# Altium footprint library DSO221SHF.PcbLib: 1 footprints
Each footprint in its own frame and in the unit in brackets; x right, y up, seen from the top. Pads: shape width x height; smd on the part's side, far side on the other; paste and mask are expansions set on the pad; w line width, h text height; cw(c..) or ccw(c..) is an arc to the next point about the centre after c.
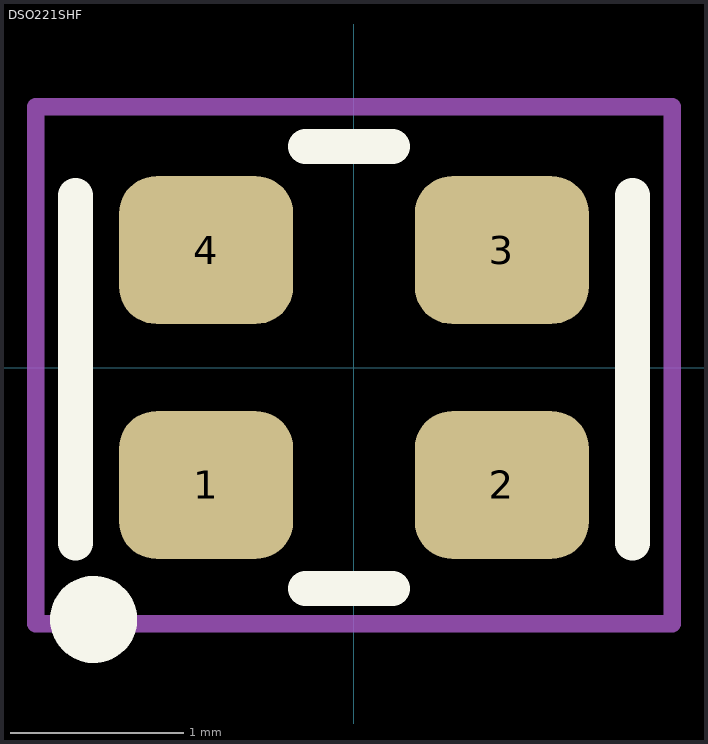
[diagram p0: the footprint, top view; thin cyan lines are the x and y axes]

## DSO221SHF [mm]
height 0.9
pads (4):
  rrect50% 1x0.85 smd: 1(-0.85,-0.675) 2(0.85,-0.675) 3(0.85,0.675) 4(-0.85,0.675)
Top Overlay:
  circle w0.25: c-1.497,-1.448 r0.125
  lines w0.2: -1.6,-1.009 -1.6,0.991 ; -0.279,-1.27 0.221,-1.27 ; -0.279,1.27 0.221,1.27 ; 1.6,-1.009 1.6,0.991
Mechanical 15:
  lines w0.1: -1.829,-1.473 1.829,-1.473 1.829,1.499 -1.829,1.499 -1.829,-1.473
3D body: height 0.5, standoff 0, extent -1.1,-1.04 0,-0.332
3D body: height 0.5, standoff 0, extent -1.118,0.357 -0.018,1.065
3D body: height 0.5, standoff 0, extent 0,0.357 1.1,1.065
3D body: height 0.5, standoff 0.05, extent -1.299,-1.067 1.27,1.067
3D body: height 1.21, standoff 1.2, extent -1.115,-0.838 -0.866,-0.589
3D body: height 0.5, standoff 0, extent 0.043,-1.04 1.143,-0.332
3D body: height 1, standoff 0.5, extent -1.295,-1.041 1.27,1.067
3D body: height 1.2, standoff 1, extent -1.27,-1.067 1.27,1.067